# Altium footprint library DF51K-14DP-2DS(800).PcbLib: 1 footprints
Each footprint in its own frame and in the unit in brackets; x right, y up, seen from the top. Pads: shape width x height; smd on the part's side, far side on the other; paste and mask are expansions set on the pad; w line width, h text height; cw(c..) or ccw(c..) is an arc to the next point about the centre after c.
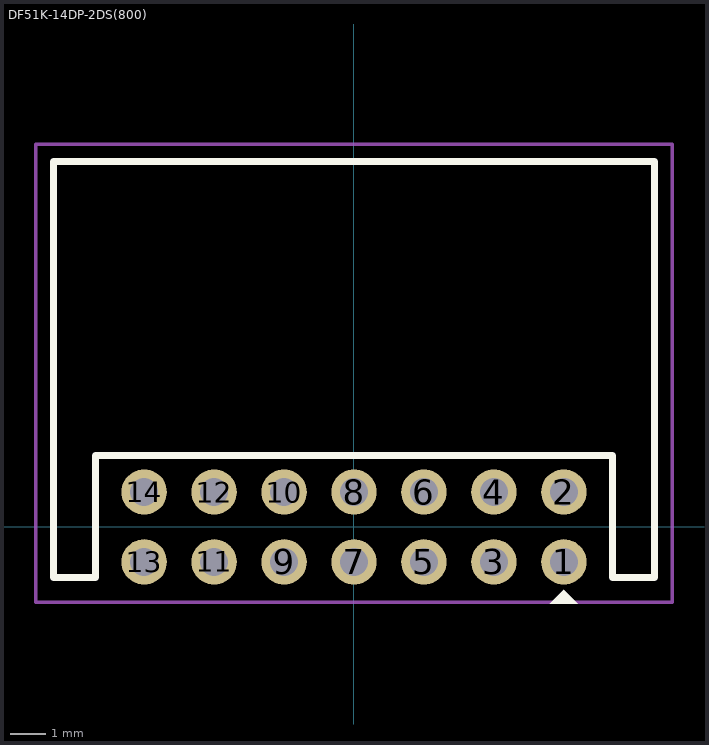
[diagram p0: the footprint, top view; thin cyan lines are the x and y axes]

## DF51K-14DP-2DS(800) [mm]
pads (14):
  round 1.3 hole 0.8: 1(6,-1) 2(6,1) 3(4,-1) 4(4,1) 5(2,-1) 6(2,1) 7(0,-1) 8(0,1) 9(-2,-1) 10(-2,1) 11(-4,-1) 12(-4,1) 13(-6,-1) 14(-6,1)
Top Overlay:
  region: 6.4,-2.2 5.6,-2.2 6,-1.8
  lines w0.2: -8.6,-1.45 -7.4,-1.45 -7.4,2.05 7.4,2.05 7.4,-1.45 8.6,-1.45 8.6,10.45 -8.6,10.45 -8.6,-1.45
Top Courtyard:
  lines w0.1: -9.1,-2.15 -9.1,10.95 9.1,10.95 9.1,-2.15 -6.025,-2.15 -9.1,-2.15
3D body "DF51K-14DP-2DS_4800597000_3D.stp": height 8.67, standoff -3.08, extent -8.6,-1.45 8.6,10.45